# Altium footprint library Connector.PcbLib: 240 footprints (part 7 of 15)
Each footprint in its own frame and in the unit in brackets; x right, y up, seen from the top. Pads: shape width x height; smd on the part's side, far side on the other; paste and mask are expansions set on the pad; w line width, h text height; cw(c..) or ccw(c..) is an arc to the next point about the centre after c.
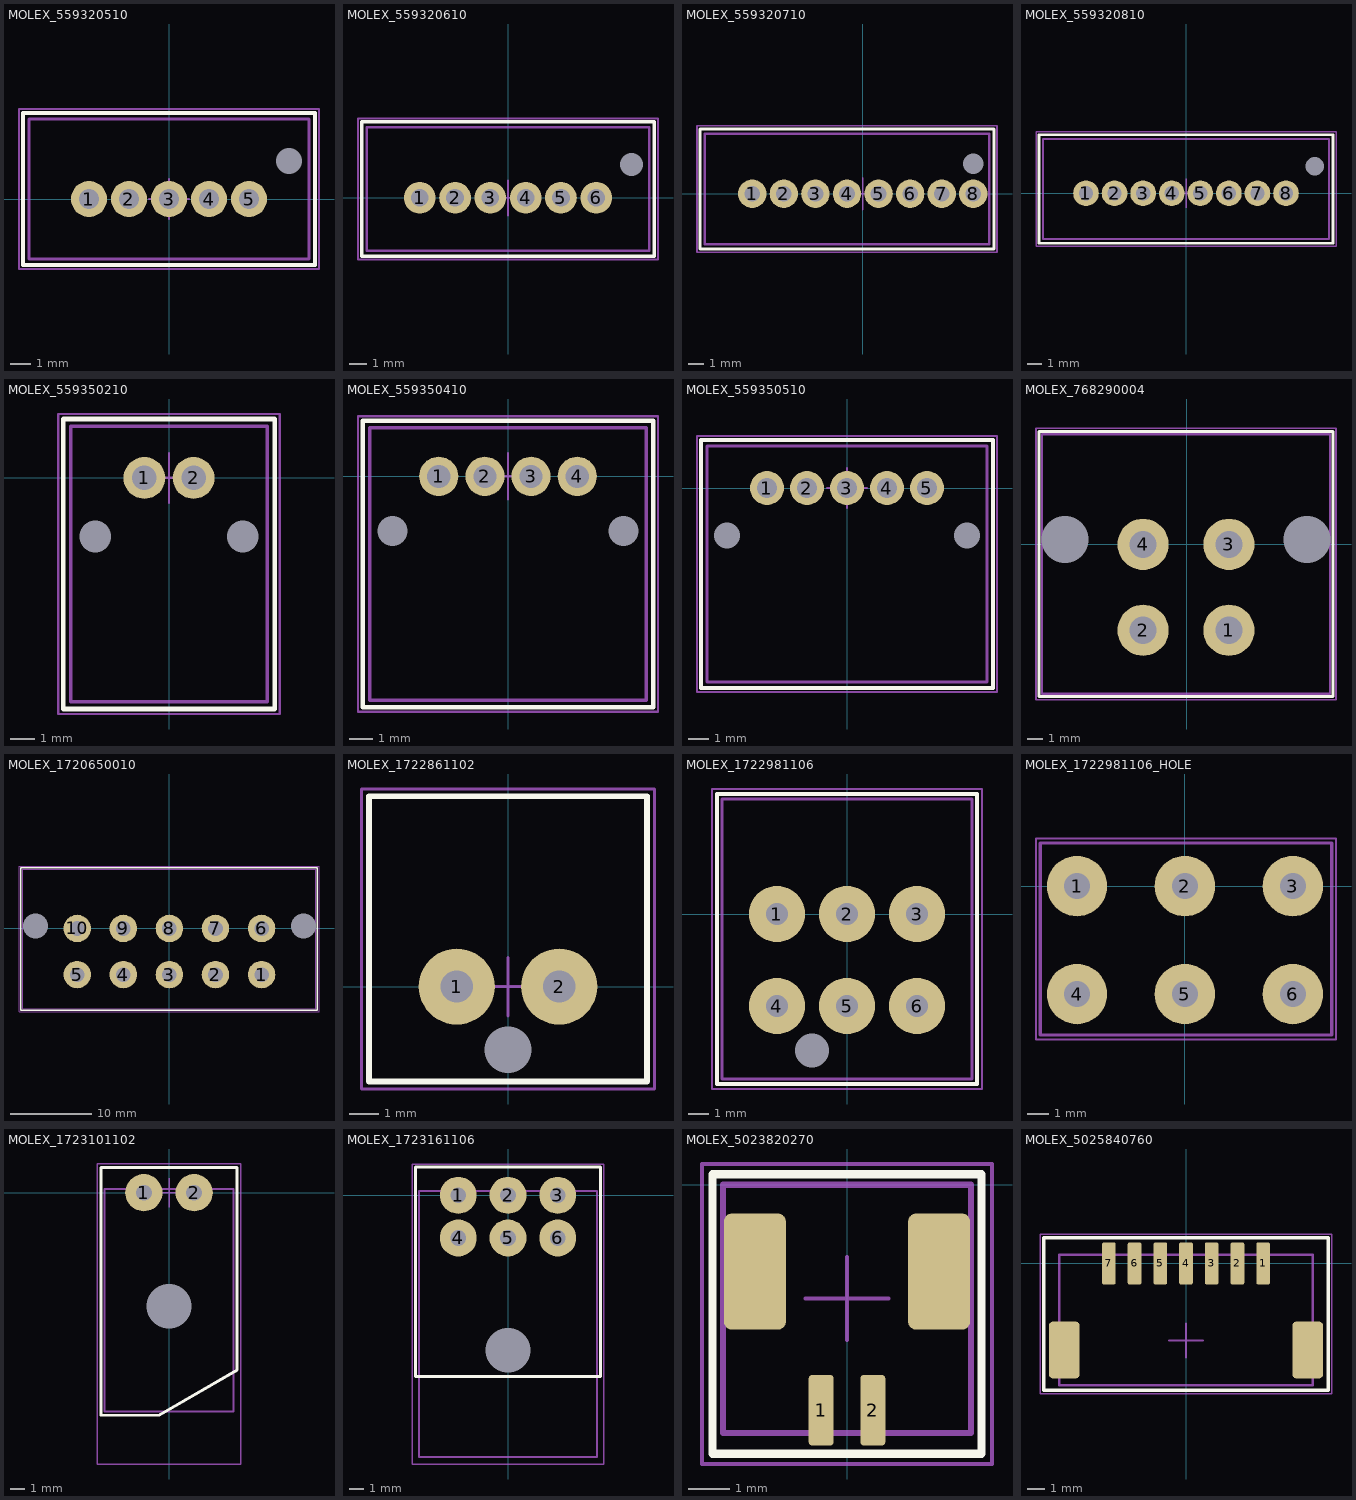
[diagram p6: the footprints below, top view; thin cyan lines are the x and y axes]

## MOLEX_559320510 [mm]
pads (6):
  round 1.8 hole 1: 1(-4,0) 2(-2,0) 3(0,0) 4(2,0) 5(4,0)
  round 0 hole 1.3: ""(6,1.9)
Top Overlay:
  lines w0.2: -7.3,-3.3 7.3,-3.3 7.3,4.3 -7.3,4.3 -7.3,-3.3
Mechanical 9:
  text ".Designator" at -5.2,5.5 h3.5
Mechanical 10:
  text ".Comment" at -3.1,-5 h2
Mechanical 11:
  lines w0.15: -7,-3 7,-3 7,4 -7,4 -7,-3
Mechanical 15:
  lines w0.1: -7.5,-3.5 7.5,-3.5 7.5,4.5 -7.5,4.5 -7.5,-3.5 ; -1,0 1,0 -1,0 ; 0,-1 0,1 0,-1
3D body "4 pair.STEP": height 13.21, standoff -3.19, extent -7,-3 7,4.05

## MOLEX_559320610 [mm]
pads (7):
  round 1.8 hole 1: 1(-5,0) 2(-3,0) 3(-1,0) 4(1,0) 5(3,0) 6(5,0)
  round 0 hole 1.3: ""(7,1.9)
Top Overlay:
  lines w0.2: -8.3,-3.3 -8.3,4.3 8.3,4.3 8.3,-3.3 -8.3,-3.3
Mechanical 9:
  text ".Designator" at -5.2,5.5 h3.5
Mechanical 10:
  text ".Comment" at -3.1,-5 h2
Mechanical 11:
  lines w0.15: -8,-3 -8,4 8,4 8,-3 -8,-3
Mechanical 15:
  lines w0.1: -1,0 1,0 ; 0,-1 0,1 ; -8.5,-3.5 -8.5,4.5 8.5,4.5 8.5,-3.5 -8.5,-3.5
3D body "Сборка.STEP": height 13.1, standoff -3.15, extent -8,-3 8,4.05

## MOLEX_559320710 [mm]
pads (9):
  round 1.8 hole 1: 1(-7,0) 2(-5,0) 3(-3,0) 4(-1,0) 5(1,0) 6(3,0) 7(5,0) 8(7,0)
  round 0 hole 1.3: ""(7,1.9)
Top Overlay:
  lines w0.2: -10.3,-3.5 8.3,-3.5 8.3,4.1 -10.3,4.1 -10.3,-3.5
Mechanical 9:
  text ".Designator" at -5.2,5.5 h3.5
Mechanical 10:
  text ".Comment" at -3.1,-5 h2
Mechanical 11:
  lines w0.15: -10,-3.2 8,-3.2 8,3.8 -10,3.8 -10,-3.2
Mechanical 15:
  lines w0.1: -1,0 1,0 ; 0,-1 0,1 ; -10.5,-3.7 -10.5,4.3 8.5,4.3 8.5,-3.7 -10.5,-3.7
3D body "Разъем 03.08.2020.STEP": height 13.2, standoff -3.2, extent -10,-3.225 8,3.825

## MOLEX_559320810 [mm]
pads (9):
  round 1.8 hole 1: 1(-7,0) 2(-5,0) 3(-3,0) 4(-1,0) 5(1,0) 6(3,0) 7(5,0) 8(7,0)
  round 0 hole 1.3: ""(9,1.9)
Top Overlay:
  lines w0.2: -10.3,-3.5 10.3,-3.5 10.3,4.1 -10.3,4.1 -10.3,-3.5
Mechanical 9:
  text ".Designator" at -5.2,5.5 h3.5
Mechanical 10:
  text ".Comment" at -3.1,-5 h2
Mechanical 11:
  lines w0.15: -10,-3.2 10,-3.2 10,3.8 -10,3.8 -10,-3.2
Mechanical 15:
  lines w0.1: -1,0 1,0 ; 0,-1 0,1 ; -10.5,-3.7 -10.5,4.3 10.5,4.3 10.5,-3.7 -10.5,-3.7
3D body "Разъем 5678.STEP": height 13.05, standoff -3.2, extent -10,-3.125 10,3.825

## MOLEX_559350210 [mm]
pads (4):
  round 1.7 hole 1: 1(-1,0) 2(1,0)
  round 0 hole 1.3 unplated: ""(-3,-2.374) ""(3,-2.374)
Top Overlay:
  lines w0.2: -4.3,-9.4 4.3,-9.4 4.3,2.4 -4.3,2.4 -4.3,-9.4
Mechanical 9:
  text ".Designator" at -5.2,5.5 h3.5
Mechanical 10:
  text ".Comment" at -3.1,-5 h2
Mechanical 11:
  lines w0.15: -4,-9.1 4,-9.1 4,2.1 -4,2.1 -4,-9.1
Mechanical 15:
  lines w0.1: -1,0 1,0 ; 0,-1 0,1 ; -4.5,-9.6 4.5,-9.6 4.5,2.6 -4.5,2.6 -4.5,-9.6
3D body "Сбор очка .STEP": height 7.07, standoff -3.17, extent -4,-13.125 4,2.125

## MOLEX_559350410 [mm]
pads (6):
  round 1.7 hole 1: 1(-3,0) 2(-1,0) 3(1,0) 4(3,0)
  round 0 hole 1.3 unplated: ""(-5,-2.374) ""(5,-2.374)
Top Overlay:
  lines w0.2: -6.3,-10 -6.3,2.4 6.3,2.4 6.3,-10 -6.3,-10
Mechanical 9:
  text ".Designator" at -5.2,5.5 h3.5
Mechanical 10:
  text ".Comment" at -3.1,-5 h2
Mechanical 11:
  lines w0.15: -6,-9.7 -6,2.1 6,2.1 6,-9.7 -6,-9.7
Mechanical 15:
  lines w0.1: -1,0 1,0 ; 0,-1 0,1 ; -6.5,-10.2 -6.5,2.6 6.5,2.6 6.5,-10.2 -6.5,-10.2
3D body "Разъем 1234.STEP": height 7.05, standoff -3.2, extent -6,-13.075 6,2.075

## MOLEX_559350510 [mm]
pads (7):
  round 1.7 hole 1: 1(-4,0) 2(-2,0) 3(0,0) 4(2,0) 5(4,0)
  round 0 hole 1.3 unplated: ""(-6,-2.374) ""(6,-2.374)
Top Overlay:
  lines w0.2: -7.3,-10 7.3,-10 7.3,2.4 -7.3,2.4 -7.3,-10
Mechanical 9:
  text ".Designator" at -5.2,5.5 h3.5
Mechanical 10:
  text ".Comment" at -3.1,-5 h2
Mechanical 11:
  lines w0.15: -7,-9.7 7,-9.7 7,2.1 -7,2.1 -7,-9.7
Mechanical 15:
  lines w0.1: -1,0 1,0 ; 0,-1 0,1 ; -7.5,-10.2 7.5,-10.2 7.5,2.6 -7.5,2.6 -7.5,-10.2
3D body "Assem.STEP": height 7.05, standoff -3.2, extent -7,-12.975 7,2.075

## MOLEX_768290004 [mm]
pads (6):
  round 3.4 hole 1.81: 1(2.8,-5.7) 2(-2.9,-5.7) 3(2.8,0) 4(-2.9,0)
  round 0 hole 3.1: ""(-8.07,0.325) ""(7.97,0.325)
Top Overlay:
  lines w0.2: -9.8,-10.1 -9.8,7.5 9.7,7.5 9.7,-10.1 -9.8,-10.1
Mechanical 7:
  lines w0.15: -9.6,-9.9 -9.6,7.3 9.5,7.3 9.5,-9.9 -9.6,-9.9
Mechanical 9:
  text ".Designator" at -6.5,10.2 h3
Mechanical 10:
  text ".Comment" at -4.6,8.4 h2
Mechanical 15:
  lines w0.1: -9.6,0 -7.6,0 ; -8.6,-1 -8.6,1 ; -10,-10.3 -10,7.7 9.9,7.7 9.9,-10.3 -10,-10.3
3D body "molex.STEP": height 29, standoff -3.58, extent -9.592,-9.878 9.5,7.278

## MOLEX_1720650010 [mm]
pads (12):
  round 3.4 hole 1.81: 1(11.4,-5.7) 2(5.7,-5.7) 3(0,-5.7) 4(-5.7,-5.7) 5(-11.4,-5.7) 6(11.4,0) 7(5.7,0) 8(0,0) 9(-5.7,0) 10(-11.4,0)
  round 0 hole 3.1: ""(-16.57,0.325) ""(16.57,0.325)
Top Overlay:
  lines w0.2: -18.4,-10.1 -18.4,7.5 18.3,7.5 18.3,-10.1 -18.4,-10.1
Mechanical 7:
  lines w0.15: -18.15,-9.9 -18.15,7.3 18.1,7.3 18.1,-9.9 -18.15,-9.9
Mechanical 9:
  text ".Designator" at -7.8,10.1 h3
Mechanical 10:
  text ".Comment" at -3.1,8.3 h2
Mechanical 15:
  lines w0.1: -1,0 1,0 ; 0,-1 0,1 ; -18.6,-10.3 -18.6,7.7 18.5,7.7 18.5,-10.3 -18.6,-10.3
3D body "Connector 170001110 & 1720650010.STEP": height 29, standoff -3.58, extent -18.1,-9.878 18.092,7.278

## MOLEX_1722861102 [mm]
pads (3):
  round 2.6 hole 1.1: 1(-1.75,0) 2(1.75,0)
  round 0 hole 1.6: ""(0,-2.16)
Top Overlay:
  lines w0.2: -4.75,-3.245 -4.75,6.5 4.75,6.5 4.75,-3.245 -4.75,-3.245
Mechanical 7:
  lines w0.15: -4.75,-3.245 -4.75,6.5 4.75,6.5 4.75,-3.245 -4.75,-3.245
Mechanical 9:
  text ".Designator" at -6.5,10.2 h3
Mechanical 10:
  text ".Comment" at -4.6,8.4 h2
Mechanical 15:
  lines w0.1: -1,0 1,0 ; 0,-1 0,1 ; -5,-3.5 -5,6.75 5,6.75 5,-3.5 -5,-3.5
3D body "soed.STEP": height 27.1, standoff -2.9, extent -4.8,-3.245 4.8,6.465

## MOLEX_1722981106 [mm]
pads (7):
  round 2.8 hole 1.1: 1(-3.5,0) 2(0,0) 3(3.5,0) 4(-3.5,-4.6) 5(0,-4.6) 6(3.5,-4.6)
  round 0 hole 1.7: ""(-1.75,-6.83)
Top Overlay:
  lines w0.2: -6.5,-8.5 6.5,-8.5 6.5,6 -6.5,6 -6.5,-8.5
Mechanical 7:
  lines w0.15: -6.25,-8.25 6.25,-8.25 6.25,5.75 -6.25,5.75 -6.25,-8.25
Mechanical 9:
  text ".Designator" at -6.5,10.2 h3
Mechanical 10:
  text ".Comment" at -4.6,8.4 h2
Mechanical 15:
  lines w0.1: -1,0 1,0 ; 0,-1 0,1 ; -6.75,-8.75 6.75,-8.75 6.75,6.25 -6.75,6.25 -6.75,-8.75
3D body "1722981106.stp": height 15.6, standoff -1.6, extent -6.25,-8.25 6.25,5.66

## MOLEX_1722981106_HOLE [mm]
pads (6):
  round 2.8 hole 1.2: 1(-5,0) 2(0,0) 3(5,0) 4(-5,-5) 5(0,-5) 6(5,-5)
Mechanical 7:
  lines w0.15: -6.7,-6.9 6.8,-6.9 6.8,2 -6.7,2 -6.7,-6.9
Mechanical 9:
  text ".Designator" at -6.5,10.2 h3
Mechanical 10:
  text ".Comment" at -4.6,8.4 h2
Mechanical 15:
  lines w0.1: -1,0 1,0 ; 0,-1 0,1 ; -6.9,-7.1 7,-7.1 7,2.2 -6.9,2.2 -6.9,-7.1
3D body: height 7, standoff 0, extent 4.4,-5.6 5.6,-4.4
3D body: height 7, standoff 0, extent -0.6,-5.6 0.6,-4.4
3D body: height 7, standoff 0, extent -5.6,-5.6 -4.4,-4.4
3D body: height 7, standoff 0, extent 4.4,-0.6 5.6,0.6
3D body: height 7, standoff 0, extent -0.6,-0.6 0.6,0.6
3D body: height 7, standoff 0, extent -5.6,-0.6 -4.4,0.6

## MOLEX_1723101102 [mm]
pads (3):
  round 2.6 hole 1.1: 1(-1.75,0) 2(1.75,0)
  round 0 hole 3.13: ""(0,-7.91)
Top Overlay:
  lines w0.2: -4.75,-15.5 -0.7,-15.5 4.75,-12.35 4.75,1.75 -4.75,1.75 -4.75,-15.5
Mechanical 7:
  lines w0.15: -4.5,-15.25 4.5,-15.25 4.5,0.25 -4.5,0.25 -4.5,-15.25
Mechanical 9:
  text ".Designator" at -6.5,10.2 h3
Mechanical 10:
  text ".Comment" at -4.6,8.4 h2
Mechanical 15:
  lines w0.1: -1,0 1,0 ; 0,-1 0,1 ; -5,-18.9 5,-18.9 5,2 -5,2 -5,-18.9
3D body "Сборка251.STEP": height 9.77, standoff -3.1, extent -5.005,-28.565 4.625,0.377

## MOLEX_1723161106 [mm]
pads (7):
  round 2.6 hole 1.1: 1(-3.5,0) 2(0,0) 3(3.5,0) 4(-3.5,-3) 5(0,-3) 6(3.5,-3)
  round 0 hole 3.13: ""(0,-10.91)
Top Overlay:
  lines w0.2: -6.5,-12.75 6.5,-12.75 6.5,2 -6.5,2 -6.5,-12.75
Mechanical 7:
  lines w0.15: -6.25,-18.4 6.25,-18.4 6.25,0.3 -6.25,0.3 -6.25,-18.4
Mechanical 9:
  text ".Designator" at -6.5,10.2 h3
Mechanical 10:
  text ".Comment" at -4.6,8.4 h2
Mechanical 15:
  lines w0.1: -1,0 1,0 ; 0,-1 0,1 ; -6.75,-18.9 6.75,-18.9 6.75,2.2 -6.75,2.2 -6.75,-18.9
3D body "1723161106.stp": height 13.58, standoff -3.17, extent -6.25,-18.4 6.25,0.277

## MOLEX_5023820270 [mm]
pads (4):
  rrect25% 0.6x1.7 smd: 1(-0.625,-5.45) 2(0.625,-5.45)
  rrect25% 1.5x2.8 smd: ""(-2.225,-2.1) ""(2.225,-2.1)
Top Overlay:
  lines w0.2: -3.25,-6.5 -3.25,0.25 3.25,0.25 3.25,-6.5 -3.25,-6.5
Mechanical 7:
  lines w0.15: -3,-6 -3,0 3,0 3,-6 -3,-6
Mechanical 9:
  text ".Designator" at -4.75,1.5 h3.5
Mechanical 10:
  text ".Comment" at -2.25,-8.5 h2
Mechanical 15:
  lines w0.1: -1,-2.75 1,-2.75 ; 0,-3.75 0,-1.75 ; -3.5,-6.75 -3.5,0.5 3.5,0.5 3.5,-6.75 -3.5,-6.75
3D body "Сборка1.STEP": height 7.72, standoff -0.05, extent -2.925,-5.97 2.925,-0.025

## MOLEX_5025840760 [mm]
pads (9):
  rrect25% 0.8x2.45 smd: 1(4.5,0) 2(3,0) 3(1.5,0) 4(0,0) 5(-1.5,0) 6(-3,0) 7(-4.5,0)
  rrect25% 1.8x3.3 smd: ""(-7.1,-5.05) ""(7.1,-5.05)
Top Overlay:
  lines w0.2: -8.3,-7.4 8.3,-7.4 8.3,1.5 -8.3,1.5 -8.3,-7.4
Mechanical 9:
  text ".Designator" at -5.4,-9.975 h3.5
Mechanical 10:
  text ".Comment" at -2.8,-12.075 h2
Mechanical 11:
  lines w0.15: -7.4,-7.1 7.4,-7.1 7.4,0.5 -7.4,0.5 -7.4,-7.1
Mechanical 15:
  lines w0.1: -1,-4.5 1,-4.5 ; 0,-5.5 0,-3.5 ; -8.5,-7.6 8.5,-7.6 8.5,1.7 -8.5,1.7 -8.5,-7.6
3D body "Connectors 5025840760 & 5025780700.STEP": height 9.78, standoff -0.02, extent -7.437,-7.13 7.437,0.5